# EAGLE library part MAX4638 (library bschulz)
Mutiplexer, single 8:1, 3.5 ohm, low voltage
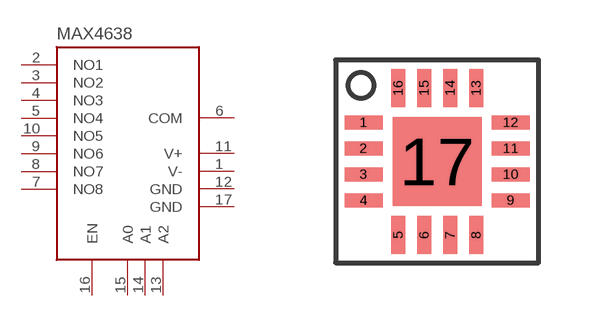
[diagram p6: symbol with the pads of TQFN16; footprint TQFN16]

Designator prefix -

## MAX4638  [TQFN16]
1  V-  pwr
2  NO1
3  NO2
4  NO3
5  NO4
6  COM
7  NO8
8  NO7
9  NO6
10  NO5
11  V+  pwr
12  GND  pwr
13  A2  in
14  A1  in
15  A0  in
16  EN  in
17  GND  pwr

## Footprint TQFN16 (pad centres in mm)
smd 0.95 x 0.35: 1 -1.84,0.975; 2 -1.84,0.325; 3 -1.84,-0.325; 4 -1.84,-0.975; 9 1.84,-0.975; 10 1.84,-0.325; 11 1.84,0.325; 12 1.84,0.975
smd 0.35 x 0.95: 5 -0.975,-1.84; 6 -0.325,-1.84; 7 0.325,-1.84; 8 0.975,-1.84; 13 0.975,1.84; 14 0.325,1.84; 15 -0.325,1.84; 16 -0.975,1.84
smd 2.23 x 2.23: 17 0,0